# EAGLE library part 750344367 (library WE-OLTI)
WE-OLTI Offline Flyback Transformers Characteristics Nominal input voltage: 85–265 VAC (120–375 VDC) Small size Low leakage inductance Multiple-output options Operating temperature: −40 °C to +125 °C Isolation Voltage: 2 kVAC to 5 kVAC Options for fixed frequency or quasi-resonant mode operation Most products meet reinforced insulation Applications Industrial controls USB chargers Utility metering devices Process controls Factory automation Security systems Garage door opener auxiliary supplies Home appliances Especially designed for several ICs from Texas Instruments Details see: www.we-online.com/en/components/products/WE-OLTI Created by Ella 2025-02-06 2025 (C) Würth Elektronik
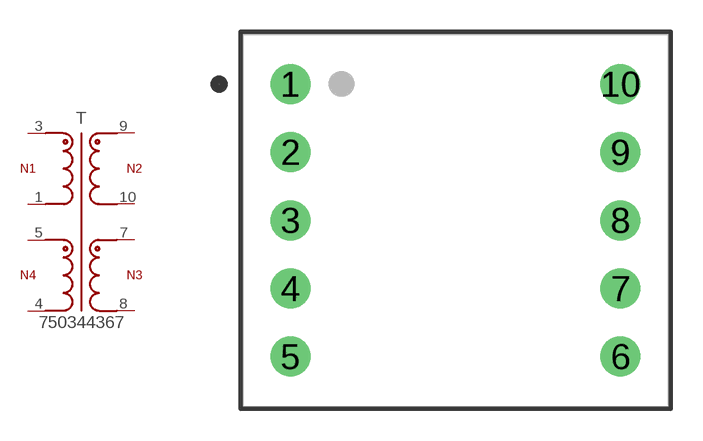
[diagram p14: symbol with the pads of WE-OLTI_EE16/7/5_L20W17.5H14; footprint WE-OLTI_EE16/7/5_L20W17.5H14]

Designator prefix T

## 750344367 (AUXILIARY_VOLTAGE_1: 12 V; CATEGORY: Transformers; DATASHEET: https://www.we-online.com/redexpert/spec/750344367?ae; HEIGHT: 14 mm; INDUCTANCE: 1600 uH; INPUT_VOLTAGE: 269 - 282 V (AC); INSULATION_TEST_VOLTAGE: 3000 V (AC); LENGTH: 17.5 mm; MANUFACTURER: Würth Elektronik; MOUNT: THT; MPN: 750344367; OUTPUT_CURRENT_1: 100 mA; OUTPUT_CURRENT_2: 900 mA; OUTPUT_VOLTAGE_1: 18 V; OUTPUT_VOLTAGE_2: 6 V; SATURATION_CURRENT: 0.3 A; SIZE: EE16/7/5; SWITCHING-FREQUENCY: 110kHz; TURNS_RATIO: 16:2:1:2; VALUE: 1600 uH; WIDTH: 20 mm)  [WE-OLTI_EE16/7/5_L20W17.5H14]
1  1  pas
3  3  pas
4  4  pas
5  5  pas
7  7  pas
8  8  pas
9  9  pas
10  10  pas

## Footprint WE-OLTI_EE16/7/5_L20W17.5H14 (pad centres in mm)
WE-OLTI Offline Flyback Transformers Size: EE16/7/5,THT,10pins LXWXH=20X17.5X14mm Bobbin: 070-7101
drill 1.25: 1 -7.75,6.4; 2 -7.75,3.2; 3 -7.75,0; 4 -7.75,-3.2; 5 -7.75,-6.4; 6 7.75,-6.4; 7 7.75,-3.2; 8 7.75,0; 9 7.75,3.2; 10 7.75,6.4